# Altium footprint library flexipanel.PCBLIB: 2 footprints
Each footprint in its own frame and in the unit in brackets; x right, y up, seen from the top. Pads: shape width x height; smd on the part's side, far side on the other; paste and mask are expansions set on the pad; w line width, h text height; cw(c..) or ccw(c..) is an arc to the next point about the centre after c.
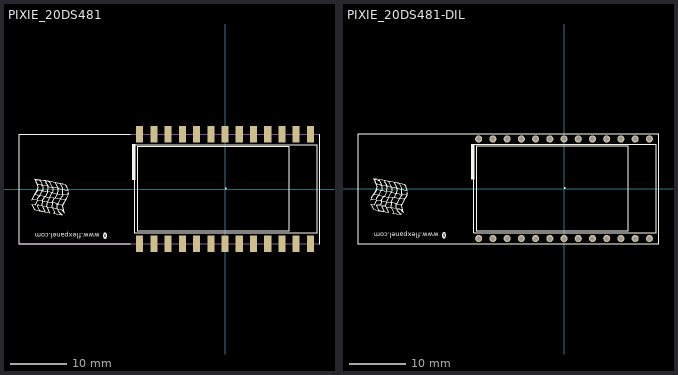
[diagram p0: the footprints below, top view; thin cyan lines are the x and y axes]

## PIXIE_20DS481 [mm]
pads (26):
  rect 1.27x3 smd: 1(-15.24,-9.761) 2(-12.7,-9.761) 3(-10.16,-9.761) 4(-7.62,-9.761) 5(-5.08,-9.761) 6(-2.54,-9.761) 7(0,-9.761) 8(2.54,-9.761) 9(5.08,-9.761) 10(7.62,-9.761) 11(10.16,-9.761) 12(12.7,-9.761) 13(15.24,-9.761) 14(15.24,9.761) 15(12.7,9.761) 16(10.16,9.761) 17(7.62,9.761) 18(5.08,9.761) 19(2.54,9.761) 20(0,9.761) 21(-2.54,9.761) 22(-5.08,9.761) 23(-7.62,9.761) 24(-10.16,9.761) 25(-12.7,9.761) 26(-15.24,9.761)
Top Overlay:
  drawing of 200 lines, arcs and shapes, not listed
  text "www.flexpanel.com" at -22.35,-7.863 h0.86
Mechanical 16:
  lines w0.203: -36.786,-9.894 16.776,-9.894 ; -36.786,9.804 16.776,9.804

## PIXIE_20DS481-DIL [mil]
pads (26):
  round 50 hole 31.5: 1(-600,-350) 2(-500,-350) 3(-400,-350) 4(-300,-350) 5(-200,-350) 6(-100,-350) 7(0,-350) 8(100,-350) 9(200,-350) 10(300,-350) 11(400,-350) 12(500,-350) 13(600,-350) 14(600,350) 15(500,350) 16(400,350) 17(300,350) 18(200,350) 19(100,350) 20(0,350) 21(-100,350) 22(-200,350) 23(-300,350) 24(-400,350) 25(-500,350) 26(-600,350)
Top Overlay:
  drawing of 200 lines, arcs and shapes, not listed
  text "www.flexpanel.com" at -879.93,-309.58 h34